# EAGLE library part UMFT221XA_OPEN-JP1_CLOSE-JP2 (library Chromation)
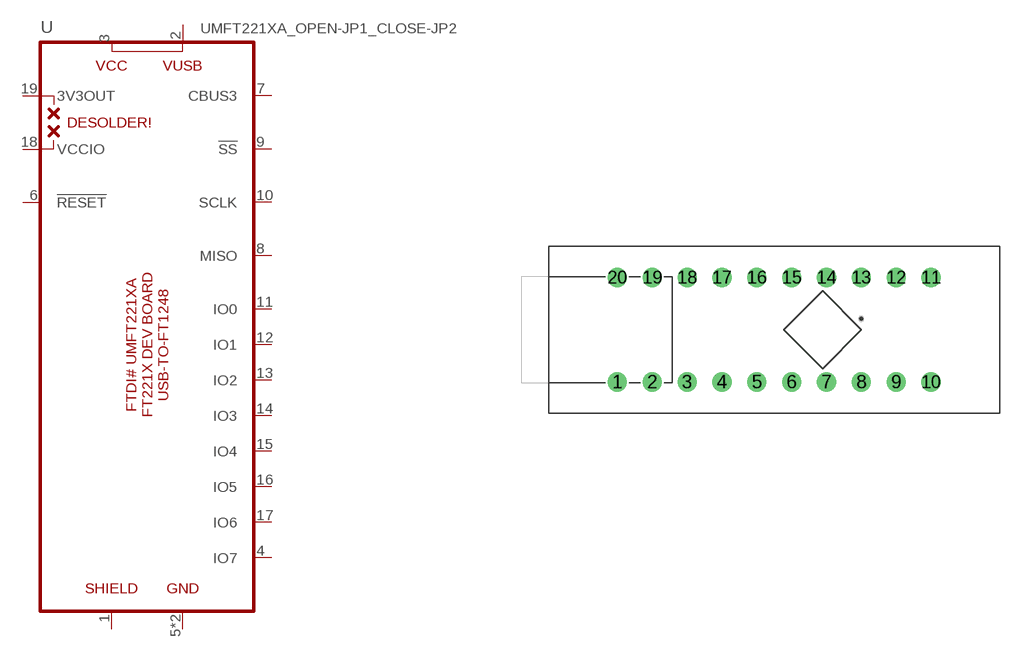
[diagram p10: symbol with the pads of UMFT221XA; footprint UMFT221XA]

Designator prefix U

## UMFT221XA_OPEN-JP1_CLOSE-JP2  [UMFT221XA]
1  SHIELD  nc
2  VUSB
3  VCC  nc
4  IO7
5  GND  pwr
6  !RESET!  nc
7  CBUS3
8  MISO
9  !SS!
10  SCLK
11  IO0
12  IO1
13  IO2
14  IO3
15  IO4
16  IO5
17  IO6
18  VCCIO
19  3V3OUT
20  GND  pwr

## Footprint UMFT221XA (pad centres in mm)
drill 0.889: 1 -11.43,-3.81; 2 -8.89,-3.81; 3 -6.35,-3.81; 4 -3.81,-3.81; 5 -1.27,-3.81; 6 1.27,-3.81; 7 3.81,-3.81; 8 6.35,-3.81; 9 8.89,-3.81; 10 11.43,-3.81; 11 11.43,3.81; 12 8.89,3.81; 13 6.35,3.81; 14 3.81,3.81; 15 1.27,3.81; 16 -1.27,3.81; 17 -3.81,3.81; 18 -6.35,3.81; 19 -8.89,3.81; 20 -11.43,3.81